# Altium schematic symbol library ECA-1JHG222.SchLib: 2 symbols
Pins are listed as number, name and electrical type; pins without a type are passive.

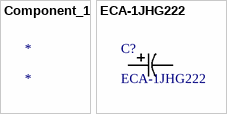
[diagram p0: symbols Component_1 to ECA-1JHG222]

## Component_1
designator *

## ECA-1JHG222
designator C?
No Description Available; Mfr_Name: Panasonic; Type: DEV; Copyright: Copyright (C) 2022 Ultra Librarian. All rights reserved.; Manufacturer_Part_Number: ECA-1JHG222; RefDes: RefDes
footprint PCAP_18x355_PAN
pins: 1, 2